# Altium footprint library Motor.PcbLib: 14 footprints
Each footprint in its own frame and in the unit in brackets; x right, y up, seen from the top. Pads: shape width x height; smd on the part's side, far side on the other; paste and mask are expansions set on the pad; w line width, h text height; cw(c..) or ccw(c..) is an arc to the next point about the centre after c.
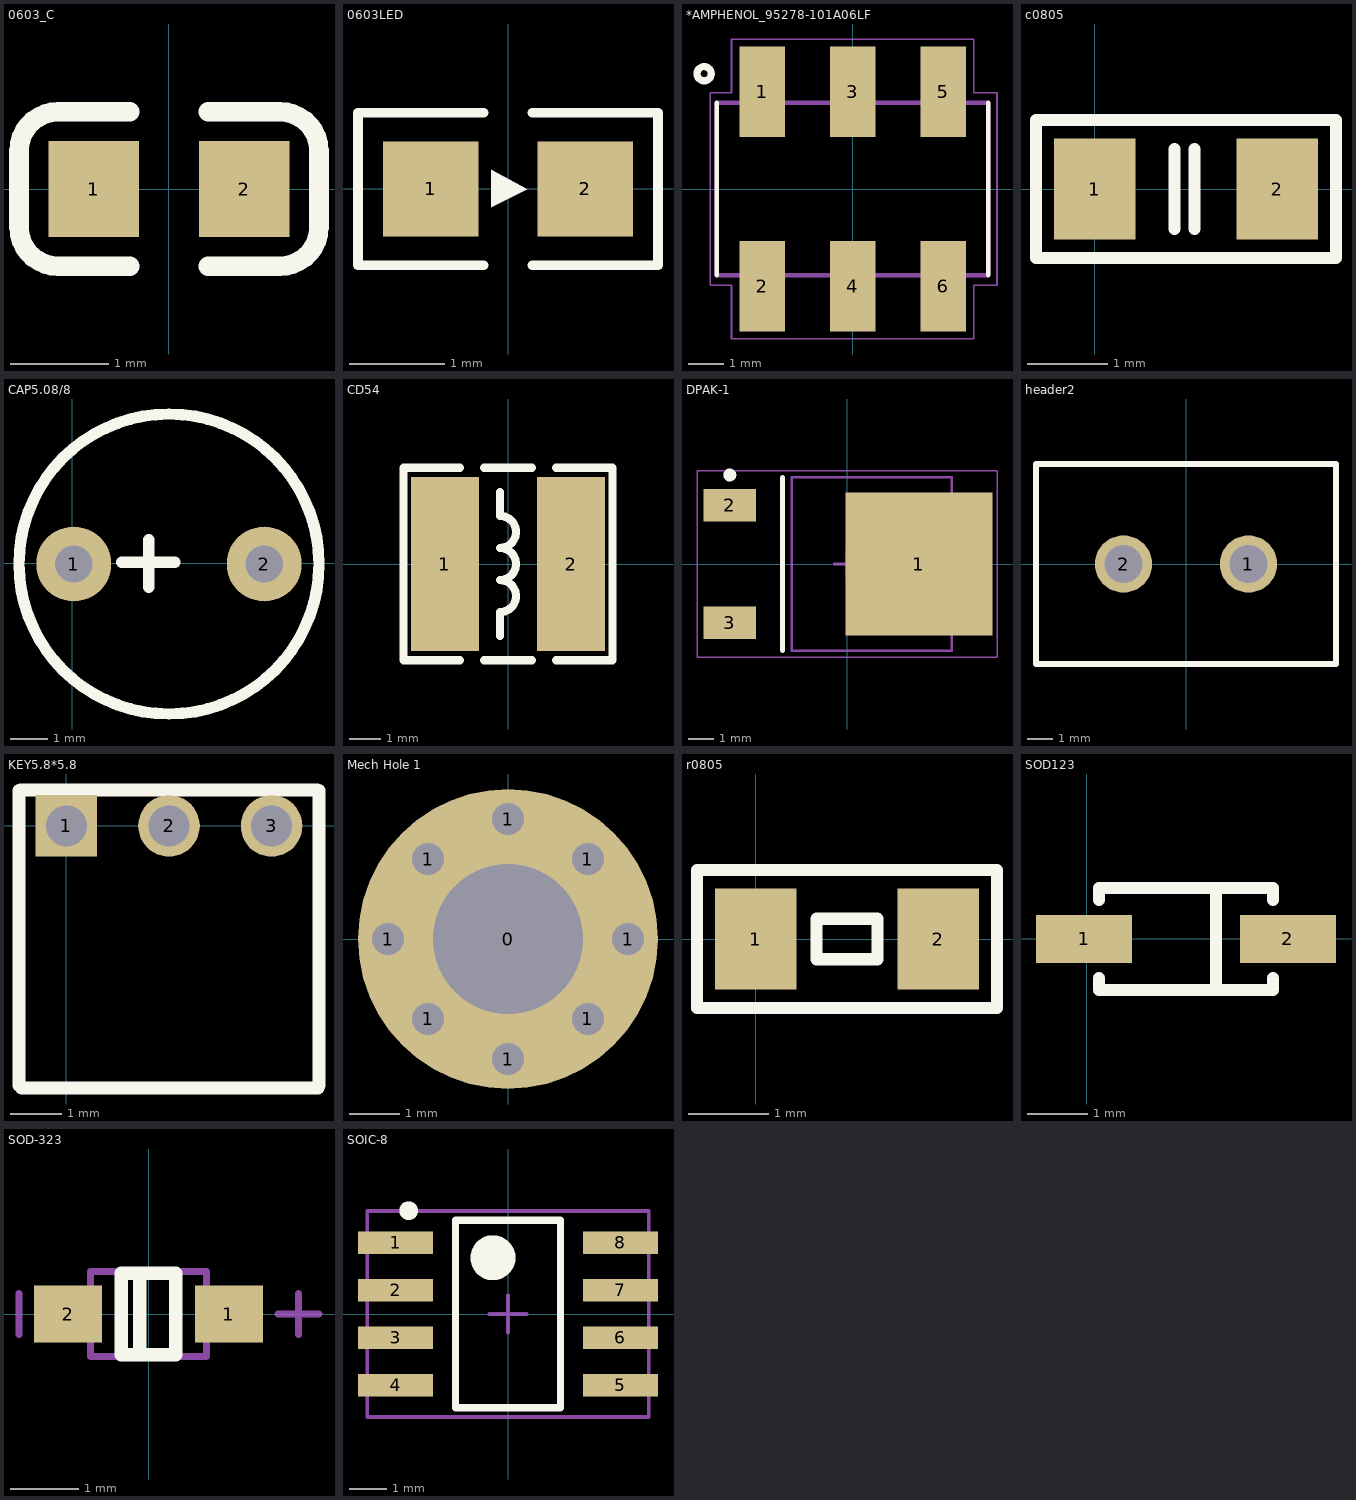
[diagram p0: the footprints below, top view; thin cyan lines are the x and y axes]

## 0603_C [mm]
pads (2):
  rect 0.93x0.98 smd: 1(-0.77,0) 2(0.77,0)
Top Overlay:
  lines w0.2: -0.4,-0.79 -1.135,-0.79 cw(c-1.135,-0.39) -1.535,-0.39 -1.535,0.39 cw(c-1.135,0.39) -1.135,0.79 -0.4,0.79 ; 0.4,-0.79 1.135,-0.79 ccw(c1.135,-0.39) 1.535,-0.39 1.535,0.39 ccw(c1.135,0.39) 1.135,0.79 0.4,0.79
3D body "User Library-0603 SMD Capacitor.STEP": height 0.3, standoff 0, extent -0.8,-0.4 0.8,0.4

## 0603LED [mm]
pads (2):
  rect 1x1 smd: 1(-0.81,0) 2(0.81,0)
Top Overlay:
  region: -0.178,0.203 -0.178,-0.191 0.203,0
  lines w0.102: -0.254,-0.8 -1.575,-0.8 -1.575,0.8 -0.254,0.8 ; 0.254,-0.8 1.575,-0.8 1.575,0.8 0.254,0.8
3D body "User Library-led_0603LED0603 orange.STEP": height 0.6, standoff 0, extent -0.81,-0.4 0.81,0.4

## *AMPHENOL_95278-101A06LF [mm]
pads (6):
  rect 1.27x2.54 smd: 1(-2.54,2.73) 2(-2.54,-2.73) 3(0,2.73) 4(0,-2.73) 5(2.54,2.73) 6(2.54,-2.73)
Top Overlay:
  circle w0.2: c-4.17,3.235 r0.2
  lines w0.127: -3.81,-2.415 -3.81,2.415 ; 3.81,-2.415 3.81,2.415
Mechanical 13:
  lines w0.127: -3.81,-2.415 -3.81,2.415 ; -3.81,-2.415 3.81,-2.415 ; -3.81,-2.415 -3.81,2.415 ; -3.81,-2.415 3.81,-2.415 ; -3.81,2.415 3.81,2.415 ; -3.81,2.415 3.81,2.415 ; 3.81,-2.415 3.81,2.415 ; 3.81,-2.415 3.81,2.415
Mechanical 15:
  lines w0.05: -4,-2.7 -4,2.7 -3.4,2.7 -3.4,4.2 3.4,4.2 3.4,2.7 4.05,2.7 4.05,-2.7 3.4,-2.7 3.4,-4.2 -3.4,-4.2 -3.4,-2.7 -4,-2.7

## c0805 [mil]
pads (2):
  rect 40x50 smd: 1(0,0) 2(90,0)
Top Overlay:
  lines w6: 39.37,-19.68 39.37,19.68 ; 49.21,-19.68 49.21,19.68 ; -29,-34 119,-34 119,34 -29,34 -29,-34
3D body "SW3dPS-0805 SMD Capacitor.STEP": height 30.79, standoff 0, extent 6,-23.61 84.74,25.61

## CAP5.08/8 [mm]
pads (2):
  round 2 hole 1: 1(0.041,-0.017) 2(5.121,-0.017)
Top Overlay:
  circle w0.305: c2.581,-0.017 r4
  lines w0.305: 1.316,0.033 2.741,0.033 ; 2.041,-0.642 2.041,0.633

## CD54 [mm] "5.8*5.2*4.5mm（长宽高）"
pads (2):
  rect 2.15x5.5 smd: 1(-2,0) 2(2,0)
Top Overlay:
  lines w0.254: -1.524,-3.048 -3.302,-3.048 -3.302,3.048 -1.524,3.048 ; -0.762,-3.048 0.762,-3.048 ; -0.762,3.048 0.762,3.048 ; -0.254,-2.286 -0.254,-1.524 ccw(c-0.254,-1.016) -0.254,-0.508 ccw(c-0.254,0) -0.254,0.508 ccw(c-0.254,1.016) -0.254,1.524 -0.254,2.286 ; 1.524,-3.048 3.302,-3.048 3.302,3.048 1.524,3.048
3D body "CD54.STEP": height 4, standoff 0, extent -2.874,-2.5 2.874,2.5

## DPAK-1 [mm]
pads (3):
  rect 5.7x5.55 smd: 1(2.794,0)
  rect 2.05x1.25 smd: 2(-4.55,2.28) 3(-4.55,-2.28)
Top Overlay:
  circle w0.25: c-4.55,3.455 r0.125
  lines w0.2: -2.5,-3.35 -2.5,3.35
Mechanical 13:
  lines w0.1: -2.15,-3.375 4.07,-3.375 4.07,3.375 -2.15,3.375 -2.15,-3.375
Mechanical 15:
  lines w0.05: -5.825,-3.625 5.825,-3.625 5.825,3.625 -5.825,3.625 -5.825,-3.625
  lines w0.1: -0.5,0 0.5,0 ; 0,-0.5 0,0.5
3D body: height 2.38, standoff 0, extent -2.15,-3.375 4.07,3.375

## header2 [mil]
pads (2):
  round 90 hole 60: 1(98.43,0) 2(-98.43,0)
Top Overlay:
  lines w10: -236.22,-157.48 236.22,-157.48 236.22,157.48 -236.22,157.48 -236.22,-157.48

## KEY5.8*5.8 [mm]
pads (3):
  rect 1.2x1.2 hole 0.8: 1(0,0)
  round 1.2 hole 0.8: 2(2,0) 3(4,0)
Top Overlay:
  lines w0.254: -0.925,-5.06 -0.925,0.686 ; -0.9,0.7 4.9,0.7 ; -0.875,-5.111 4.902,-5.111 ; 4.925,-5.059 4.925,0.686

## Mech Hole 1 [mm]
height 2.38
pads (9):
  round 6 hole 3: 0(0,0)
  round 0.635 hole 0.635: 1(-2.4,0) 1(-1.6,-1.6) 1(-1.6,1.6) 1(0,-2.4) 1(0,2.4) 1(1.6,-1.6) 1(1.6,1.6) 1(2.4,0)

## r0805 [mil]
pads (2):
  rect 40x50 smd: 1(0,0) 2(90,0)
Top Overlay:
  lines w6: -29,-34 119,-34 119,34 -29,34 -29,-34 ; 30,-10 60,-10 60,10 30,10 30,-10
3D body "User Library-RES_2013-0805.STEP": height 29.92, standoff 0, extent 0.72,-27.15 91.28,26

## SOD123 [mm]
pads (2):
  rect 1.6x0.8 smd: 1(-0.049,0) 2(3.351,0)
Top Overlay:
  lines w0.2: 0.201,-0.65 0.201,-0.85 3.101,-0.85 3.101,-0.65 ; 0.201,0.65 0.201,0.85 3.101,0.85 3.101,0.65 ; 2.151,-0.85 2.151,0.85

## SOD-323 [mm]
pads (2):
  rect 1x0.83 smd: 1(1.18,0) 2(-1.18,0)
Top Overlay:
  lines w0.2: -0.13,-0.6 -0.13,0.6 ; -0.4,-0.6 -0.4,0.6 0.4,0.6 0.4,-0.6 -0.4,-0.6
Mechanical 13:
  lines w0.1: -0.85,-0.625 -0.85,0.625 0.85,0.625 0.85,-0.625 -0.85,-0.625
Mechanical 15:
  lines w0.1: -1.9,-0.3 -1.9,0.3 ; 1.9,0 2.5,0 ; 2.2,-0.3 2.2,0.3
3D body "SOD323.STEP": height 1.1, standoff 0, extent -1.35,-0.625 1.35,0.625

## SOIC-8 [mm]
height 1.4
pads (8):
  rect 2x0.6 smd: 1(-3,1.905) 2(-3,0.635) 3(-3,-0.635) 4(-3,-1.905) 5(3,-1.905) 6(3,-0.635) 7(3,0.635) 8(3,1.905)
Top Overlay:
  circle w0.6: c-0.4,1.5 r0.3
  circle w0.25: c-2.65,2.755 r0.125
  lines w0.2: -1.4,-2.5 1.4,-2.5 1.4,2.5 -1.4,2.5 -1.4,-2.5
Mechanical 15:
  lines w0.1: -0.5,0 0.5,0 ; 0,-0.5 0,0.5 ; -3.75,-2.75 3.75,-2.75 3.75,2.75 -3.75,2.75 -3.75,-2.75
3D body "SOIC-8封装.": height 1.51, standoff 0, extent -3.05,-2.438 3.05,2.462